# Altium schematic symbol library Mos_STM_STH150N10F7-2.SchLib: 1 symbol
Pins are listed as number, name and electrical type; pins without a type are passive.

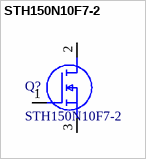
[diagram p0: symbol STH150N10F7-2]

## STH150N10F7-2
designator Q?
MOSFET N-channel 100 V, 0.0038 Ohm typ., 90 A; Manufacturer_Name: STMicroelectronics; Datasheet Link: https://componentsearchengine.com//STH150N10F7-2.pdf; Height: 4.7mm; Mouser2 Part Number: 511-STH150N10F7-2; Mouser2 Price/Stock: https://www.mouser.com/Search/Refine.aspx?Keyword=511-STH150N10F7-2; Manufacturer_Part_Number: STH150N10F7-2
footprint STH150N10F72
pins: 1 G, 2 D, 3 S